# Altium footprint library local_lib.PcbLib: 2 footprints
Each footprint in its own frame and in the unit in brackets; x right, y up, seen from the top. Pads: shape width x height; smd on the part's side, far side on the other; paste and mask are expansions set on the pad; w line width, h text height; cw(c..) or ccw(c..) is an arc to the next point about the centre after c.
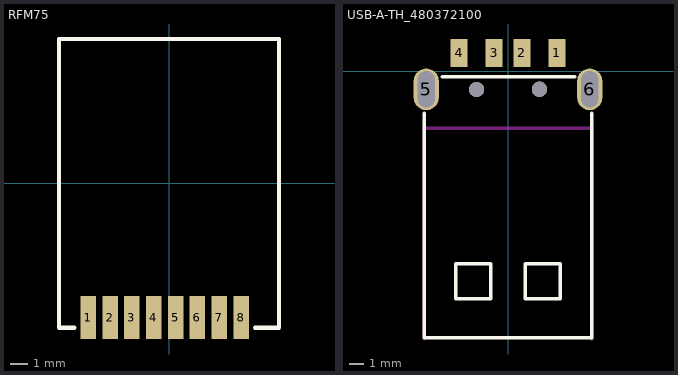
[diagram p0: the footprints below, top view; thin cyan lines are the x and y axes]

## RFM75 [mm]
pads (8):
  rect 0.9x2.5 smd: 1(-4.7,-7.8) 2(-3.43,-7.8) 3(-2.16,-7.8) 4(-0.89,-7.8) 5(0.38,-7.8) 6(1.65,-7.8) 7(2.92,-7.8) 8(4.19,-7.8)
Top Overlay:
  lines w0.254: -5.51,-8.4 -6.4,-8.4 -6.4,8.4 6.4,8.4 6.4,-8.4 5,-8.4
3D body "User Library-RFM70.step": height 3, standoff 0, extent -6.4,-8.4 6.4,8.4

## USB-A-TH_480372100 [mm]
pads (8):
  rect 1.2x2 smd paste-100 mask+0.051: 1(3.5,1.3) 2(1,1.3) 3(-1,1.3) 4(-3.5,1.3)
  oval 1.8x3 hole 1.2 slot 2.6 at 90 deg paste-2539.97 mask+0.051: 5(-5.85,-1.3) 6(5.85,-1.3)
  round 1.1 hole 1.1 unplated paste-2539.97: ""(-2.25,-1.313) ""(2.25,-1.3)
Top Overlay:
  lines w0.254: -6,-3.021 -6,-19.09 ; -4.7,-0.39 4.762,-0.39 ; 6,-3.021 6,-19.09 -6,-19.09 ; -6,-19.09 -6,-19.09 ; -3.75,-16.29 -1.25,-16.29 -1.25,-13.79 -3.75,-13.79 -3.75,-16.29 ; 1.25,-16.29 3.75,-16.29 3.75,-13.79 1.25,-13.79 1.25,-16.29
Top Paste:
  region: -1.599,2.299 -0.4,2.299 -0.4,0.3 -1.599,0.3
  region: 0.4,2.299 1.599,2.299 1.599,0.3 0.4,0.3
  region: 2.9,2.299 4.101,2.299 4.101,0.3 2.9,0.3
  region: -4.101,2.299 -2.9,2.299 -2.9,0.3 -4.101,0.3
  region: -4.95,-1.9 -4.95,-2.018 -5.011,-2.247 -5.13,-2.452 -5.297,-2.62 -5.502,-2.739 -5.731,-2.8 -5.968,-2.8 -6.197,-2.739 -6.402,-2.62 -6.57,-2.452 -6.689,-2.247 -6.75,-2.018 -6.75,-1.9 -6.75,-0.7 -6.75,-0.581 -6.689,-0.352 -6.57,-0.147 -6.402,0.02 -6.197,0.139 -5.968,0.2 -5.731,0.2 -5.502,0.139 -5.297,0.02 -5.13,-0.147 -5.011,-0.352 -4.95,-0.581 -4.95,-0.7
  region: 6.75,-1.9 6.75,-2.018 6.689,-2.247 6.57,-2.452 6.403,-2.62 6.197,-2.739 5.968,-2.8 5.731,-2.8 5.503,-2.739 5.297,-2.62 5.13,-2.452 5.011,-2.247 4.95,-2.018 4.95,-1.9 4.95,-0.7 4.95,-0.581 5.011,-0.352 5.13,-0.147 5.297,0.02 5.503,0.139 5.731,0.2 5.968,0.2 6.197,0.139 6.403,0.02 6.57,-0.147 6.689,-0.352 6.75,-0.581 6.75,-0.7
Keep-Out Layer:
  lines w0.254: -6,-19.16 -6,-4.094 6,-4.094 6,-19.17
Mechanical 15:
  circle w0.5: c2.25,-1.3 r0.25
  circle w0.5: c-2.25,-1.313 r0.25
3D body: height 0, standoff -1.4, extent -6,-19.09 6,-4.094
3D body: height 3.1, standoff 0, extent -6,-19.09 6,-0.4